# EAGLE library part TPS563200 (library texas-instruments)
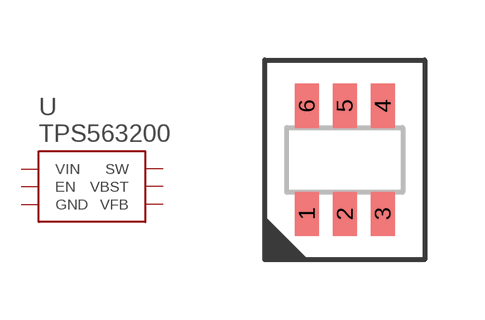
[diagram p22: symbol with the pads of R-PDSO-G6-DBV; footprint R-PDSO-G6-DBV]

Designator prefix U

## TPS563200DDC  [R-PDSO-G6-DBV]
1  GND
2  SW
3  VIN
4  VFB
5  EN
6  VBST

## Footprint R-PDSO-G6-DBV (pad centres in mm)
smd 0.6 x 1.1: 1 -0.95,-1.35; 2 0,-1.35; 3 0.95,-1.35; 4 0.95,1.35; 5 0,1.35; 6 -0.95,1.35